# Altium schematic symbol library TCA6424A.SchLib: 1 symbol
Pins are listed as number, name and electrical type; pins without a type are passive.

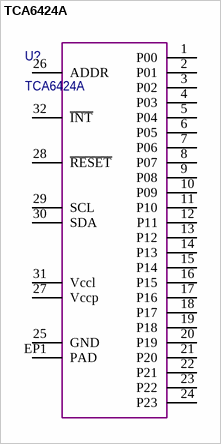
[diagram p0: symbol TCA6424A]

## TCA6424A
designator U?
pins: 1 P00, 2 P01, 3 P02, 4 P03, 5 P04, 6 P05, 7 P06, 8 P07, 9 P08, 10 P09, 11 P10, 12 P11, 13 P12, 14 P13, 15 P14, 16 P15, 17 P16, 18 P17, 19 P18, 20 P19, 21 P20, 22 P21, 23 P22, 24 P23, 25 GND, 26 ADDR, 27 Vccp, 28 ~{RESET}, 29 SCL, 30 SDA, 31 Vccl, 32 ~{INT}, EP1 PAD